# Altium schematic symbol library PM-REG-LM123-CY3.SchLib: 1 symbol
Pins are listed as number, name and electrical type; pins without a type are passive.

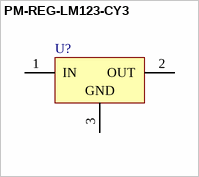
[diagram p0: symbol PM-REG-LM123-CY3]

## PM-REG-LM123-CY3
designator U?
pins: 1 IN (power), 2 OUT (power), 3 GND (power)